# EAGLE library part CD74HCT125M (library SamacSys_Parts)
High Speed CMOS Logic Quad Buffers with 3-State Outputs Source: Datasheet <http://www.ti.com/lit/ds/symlink/cd74hct125.pdf>
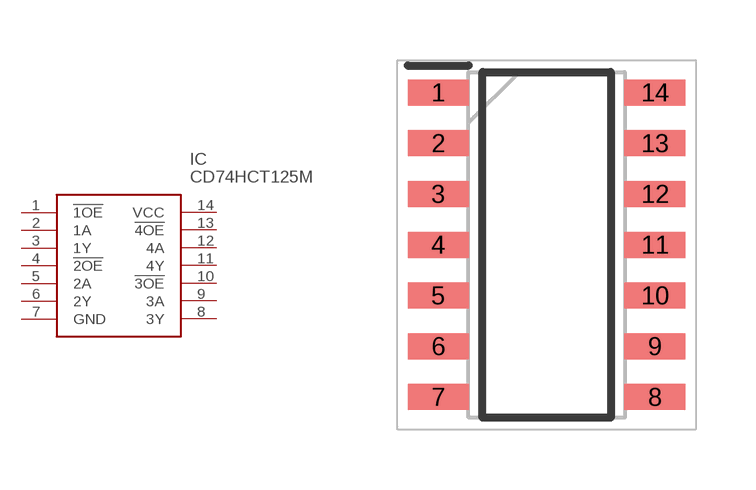
[diagram p1: symbol with the pads of SOIC127P600X175-14N; footprint SOIC127P600X175-14N]

Designator prefix IC

## CD74HCT125M (DESCRIPTION: High Speed CMOS Logic Quad Buffers with 3-State Outputs; HEIGHT: 1.75mm; MANUFACTURER_NAME: Texas Instruments; MANUFACTURER_PART_NUMBER: CD74HCT125M; MOUSER_PART_NUMBER: 595-CD74HCT125M)  [SOIC127P600X175-14N]
1  !1OE
2  1A
3  1Y
4  !2OE
5  2A
6  2Y
7  GND  pwr
8  3Y
9  3A
10  !3OE
11  4Y
12  4A
13  !4OE
14  VCC  pwr

## Footprint SOIC127P600X175-14N (pad centres in mm)
D(R-PDSO-G14)
smd 1.525 x 0.65: 1 -2.712,3.81; 2 -2.712,2.54; 3 -2.712,1.27; 4 -2.712,0; 5 -2.712,-1.27; 6 -2.712,-2.54; 7 -2.712,-3.81; 8 2.712,-3.81; 9 2.712,-2.54; 10 2.712,-1.27; 11 2.712,0; 12 2.712,1.27; 13 2.712,2.54; 14 2.712,3.81